# Altium footprint library Test Points.PcbLib: 1 footprints
Each footprint in its own frame and in the unit in brackets; x right, y up, seen from the top. Pads: shape width x height; smd on the part's side, far side on the other; paste and mask are expansions set on the pad; w line width, h text height; cw(c..) or ccw(c..) is an arc to the next point about the centre after c.
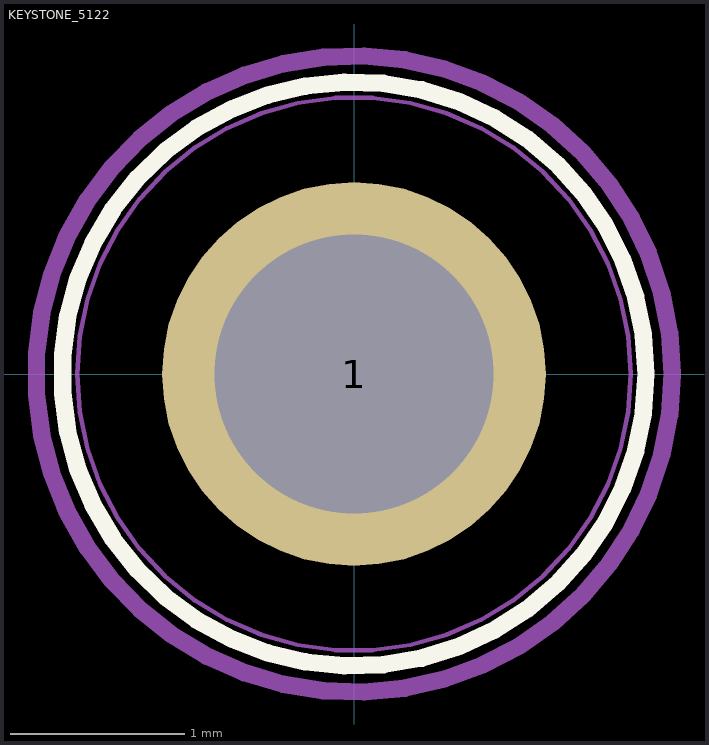
[diagram p0: the footprint, top view; thin cyan lines are the x and y axes]

## KEYSTONE_5122 [mm]
pads (1):
  round 2.2 hole 1.6 mask+0.04: 1(0,0)
Top Overlay:
  circle w0.1: c0,0 r1.675
Mechanical 13:
  circle w0.025: c0,0 r1.587
Mechanical 15:
  circle w0.1: c0,0 r1.825
  circle w0.05: c0,0 r0.25
  lines w0.05: -0.335,0 0.335,0 ; 0,-0.335 0,0.335
3D body "keystone-PN5122.STEP": height 5.57, standoff -3.34, extent -1.588,-1.588 1.587,1.587